# EAGLE library part KSZ8031RNL (library XMC4500_Relax-V1)
Ethernet PHY
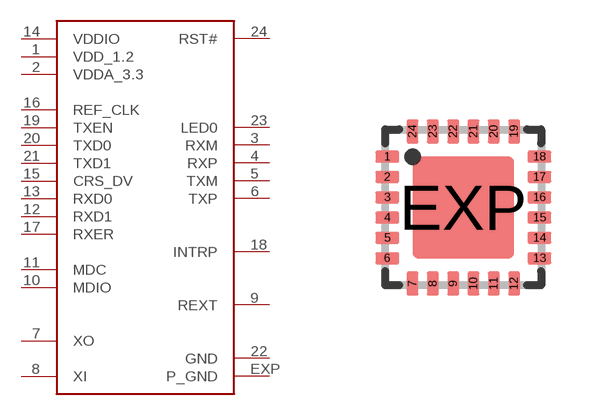
[diagram p6: symbol with the pads of QFN24; footprint QFN24]

Designator prefix -

## KSZ8031RNL  [QFN24]
1  VDD_1.2
2  VDDA_3.3
3  RXM
4  RXP
5  TXM
6  TXP
7  XO
8  XI
9  REXT
10  MDIO
11  MDC
12  RXD1
13  RXD0
14  VDDIO
15  CRS_DV
16  REF_CLK
17  RXER
18  INTRP
19  TXEN
20  TXD0
21  TXD1
22  GND
23  LED0
24  RST#
EXP  P_GND

## Footprint QFN24 (pad centres in mm)
QFN 4x4 mm Source: http://www.hittite.com/product_info/product_specs/dividersdetectors/hmc394lp4.pdf
smd 0.6 x 0.3: 1 -1.905,1.27; 2 -1.905,0.762; 3 -1.905,0.254; 4 -1.905,-0.254; 5 -1.905,-0.762; 6 -1.905,-1.27; 13 1.905,-1.27; 14 1.905,-0.762; 15 1.905,-0.254; 16 1.905,0.254; 17 1.905,0.762; 18 1.905,1.27
smd 0.3 x 0.6: 7 -1.27,-1.905; 8 -0.762,-1.905; 9 -0.254,-1.905; 10 0.254,-1.905; 11 0.762,-1.905; 12 1.27,-1.905; 19 1.27,1.905; 20 0.762,1.905; 21 0.254,1.905; 22 -0.254,1.905; 23 -0.762,1.905; 24 -1.27,1.905
smd 2.55 x 2.55: EXP 0,0